# Altium footprint library TO-252.PcbLib: 1 footprints
Each footprint in its own frame and in the unit in brackets; x right, y up, seen from the top. Pads: shape width x height; smd on the part's side, far side on the other; paste and mask are expansions set on the pad; w line width, h text height; cw(c..) or ccw(c..) is an arc to the next point about the centre after c.
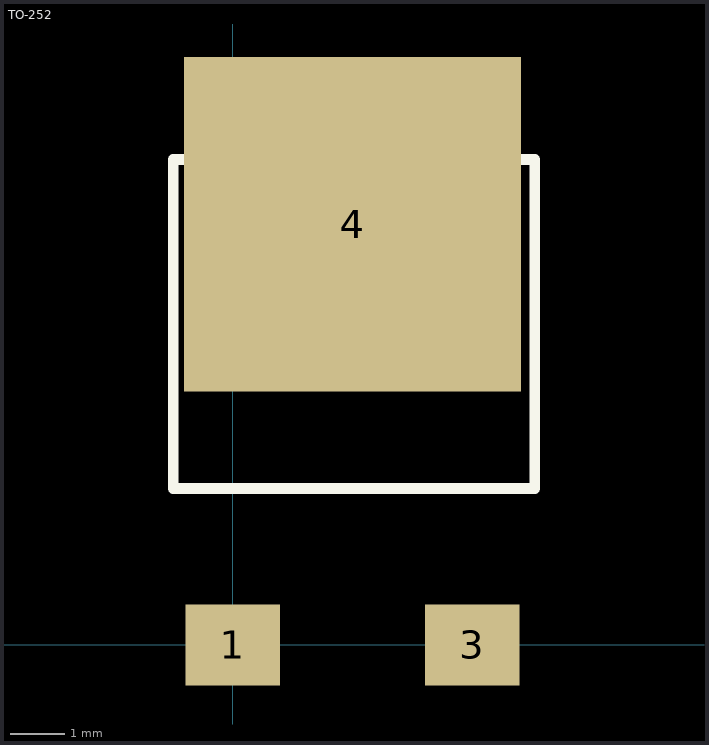
[diagram p0: the footprint, top view; thin cyan lines are the x and y axes]

## TO-252 [mm]
height 2.3
pads (3):
  rect 1.75x1.5 smd: 1(0,0) 3(4.445,0)
  rect 6.25x6.2 smd: 4(2.222,7.8)
Top Overlay:
  lines w0.2: -1.1,2.9 -1.1,9 5.6,9 5.6,2.9 -1.1,2.9